# Altium footprint library WWJ_BIGCOINER_ES04.PcbLib: 41 footprints (part 1 of 3)
Each footprint in its own frame and in the unit in brackets; x right, y up, seen from the top. Pads: shape width x height; smd on the part's side, far side on the other; paste and mask are expansions set on the pad; w line width, h text height; cw(c..) or ccw(c..) is an arc to the next point about the centre after c.
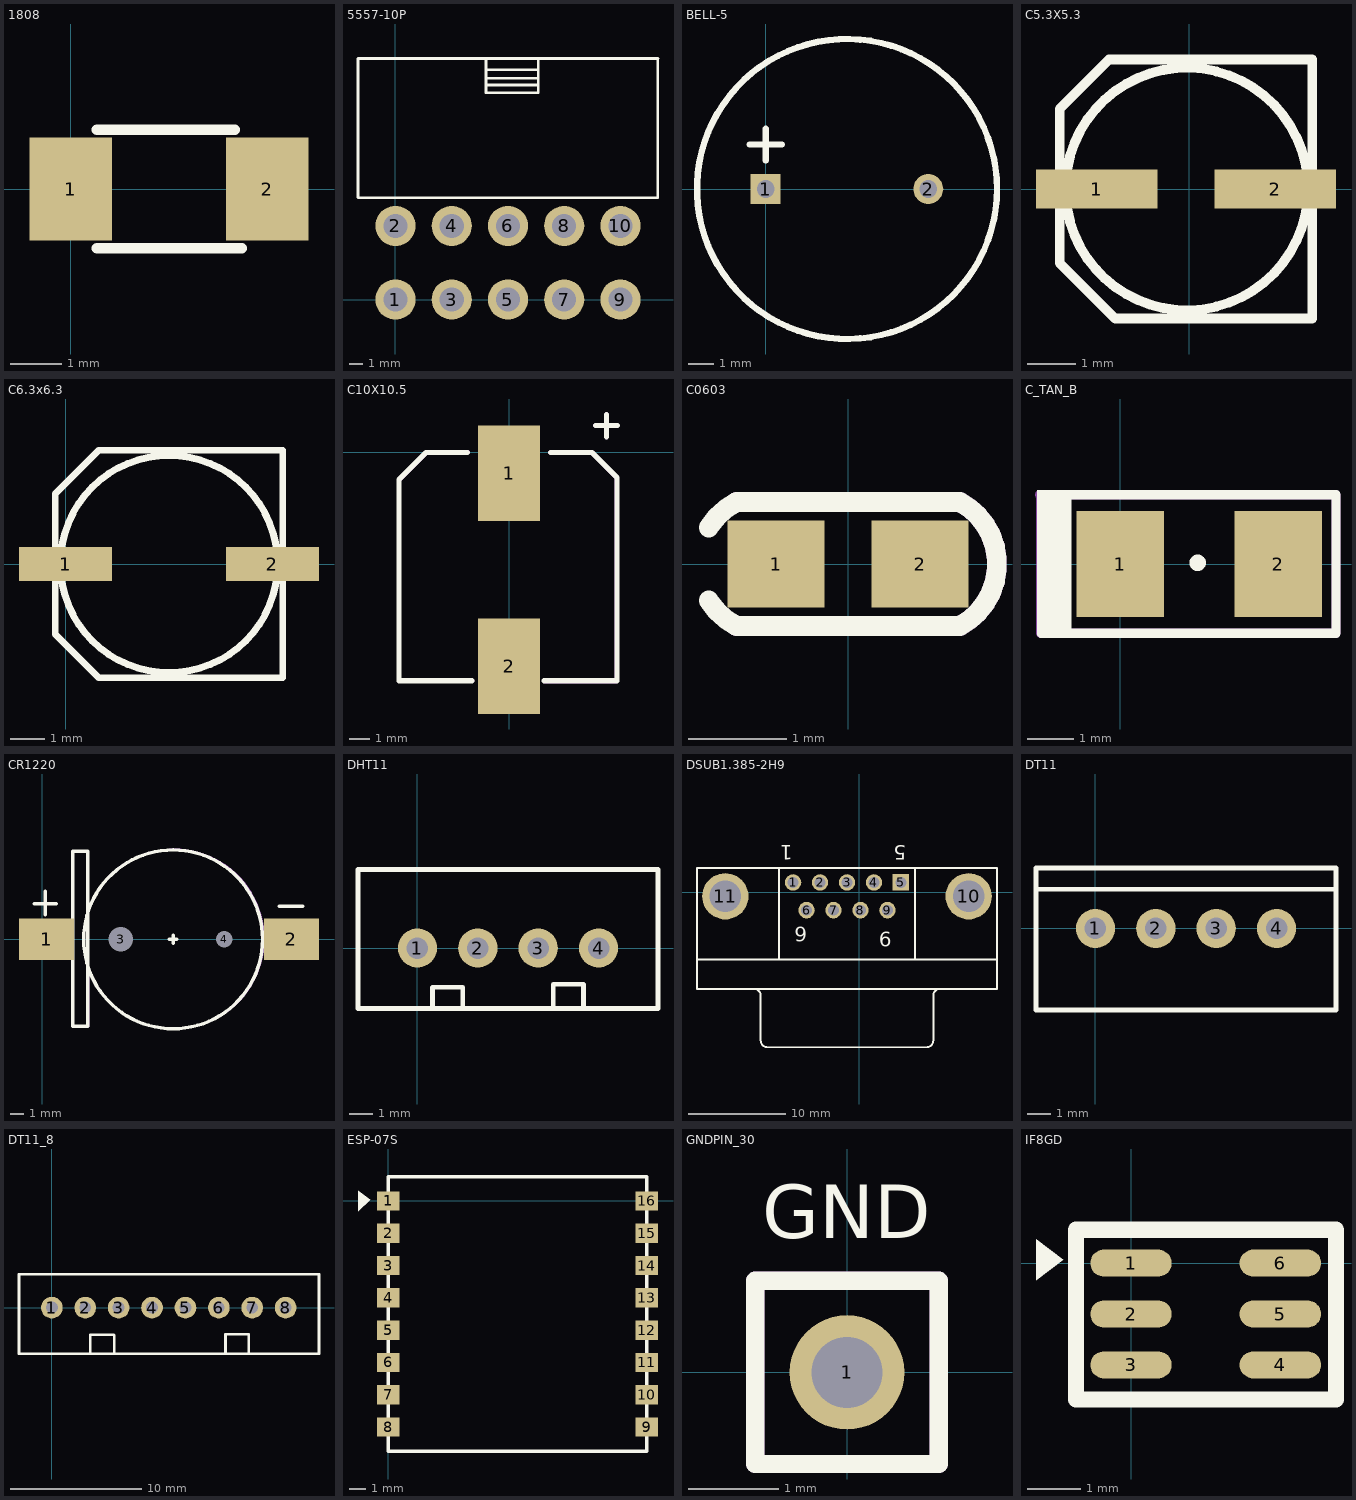
[diagram p0: the footprints below, top view; thin cyan lines are the x and y axes]

## 1808 [mm]
pads (2):
  rect 1.6x2 smd: 1(0,0) 2(3.8,0)
Top Overlay:
  lines w0.203: 0.508,-1.143 3.302,-1.143 ; 0.508,1.143 3.175,1.143

## 5557-10P [mm]
height 1.4
pads (10):
  round 3 hole 1.8: 1(0,0) 2(0,5.5) 3(4.2,0) 4(4.2,5.5) 5(8.4,0) 6(8.4,5.5) 7(12.6,0) 8(12.6,5.5) 9(16.8,0) 10(16.8,5.5)
Top Overlay:
  lines w0.2: -2.8,18 -2.8,7.626 -2.769,7.595 19.6,7.595 19.6,18 ; -2.769,18 19.609,18 ; 6.756,18.009 6.756,15.443 10.643,15.443 10.668,15.469 10.668,18 ; 6.782,17.17 10.643,17.17 ; 6.807,16.027 10.541,16.027 ; 6.883,16.535 10.617,16.535

## BELL-5 [mm]
height 1.4
pads (2):
  rect 1.2x1.2 hole 0.7: 1(0,0)
  round 1.2 hole 0.7: 2(6.5,0)
Top Overlay:
  circle w0.254: c3.25,0 r6
  lines w0.254: -0.635,1.778 0.635,1.778 ; 0,1.143 0,2.413

## C5.3X5.3 [mm]
pads (2):
  rect 2.5x0.8 smd: 1(-1.905,0) 2(1.778,0)
Top Overlay:
  circle w0.2: c-0.048,0 r2.5
  lines w0.2: -2.667,-1.524 -2.667,1.651 -1.651,2.667 2.54,2.667 2.54,-2.667 -1.524,-2.667 -2.667,-1.524

## C6.3x6.3 [mm]
pads (2):
  rect 2.7x1 smd: 1(0,0) 2(6,0)
Top Overlay:
  circle w0.2: c3,0 r3.15
  lines w0.2: -0.3,2.032 -0.3,-2.032 0.968,-3.3 6.3,-3.3 6.3,3.3 0.968,3.3 -0.287,2.045
3D body: height 5.2, standoff 0, extent -0.5,-3.302 6.5,3.298

## C10X10.5 [mm]
pads (2):
  rect 3x4.6 smd: 1(0,-1) 2(0,-10.3)
Top Overlay:
  lines w0.254: -1.8,-11 -5.3,-11 -5.3,-1.3 -4,0 ; 1.7,-11 5.2,-11 5.2,-1.2 4,0 ; 4.166,1.3 5.207,1.3 ; 4.7,0.762 4.7,1.829 ; -4,0 -2,0 -4,0 ; 4,0 2,0 4,0
Mechanical 1:
  lines w0.203: -1.981,0.025 -3.937,0.025 -5.232,-1.27 -5.258,-1.27 -5.309,-1.321 -5.309,-10.998 -1.778,-10.998 ; 1.702,-11.024 5.156,-11.024 5.182,-10.998 5.182,-1.219 ; 4.14,1.295 5.207,1.295 ; 4.699,0.737 4.699,1.854 ; 5.182,-1.219 4.039,-0.076 5.182,-1.219 ; 1.981,0 4.013,0 1.981,0
  text "C10X10.5" at -2.286,-6.274 h1.02

## C0603 [mil] "C0603"
height 55.12
pads (2):
  rect 39x35 smd: 1(-29,0) 2(29,0)
Top Overlay:
  lines w8: -56.1,-14.76 ccw(c-30.91,1.41) -45,-25 45,-25 ccw(c31.67,0) 45,25 -45,25 ccw(c-30.91,-1.41) -56.1,14.76
Mechanical 1:
  lines w8: -45,-25 45,-25 ccw(c31.67,0) 45,25 -45,25
  text "C0603" at -39,-20 h20
  text "1" at -30,-10 h10
  text "2" at 20,-10 h10

## C_TAN_B [mm] "C_TAN_B"
pads (2):
  rect 1.9x2.3 smd: 1(0,0) 2(3.42,0)
Top Overlay:
  circle w0.254: c1.676,0.025 r0.051
  region: -1.803,1.6 -1.803,-1.549 -1.753,-1.6 -1.067,-1.6 -1.067,1.6
  lines w0.203: -1.194,-1.499 4.674,-1.499 4.674,1.499 -1.194,1.499
Mechanical 1:
  region: -1.829,1.524 -1.829,-1.473 -1.219,-1.473 -1.194,-1.448 -1.194,1.524
  lines w0.203: -1.753,1.5 4.623,1.5 ; -1.727,-1.5 4.674,-1.5 4.674,1.499
  text "C_TAN_B" at -0.584,-0.559 h0.76
  text "1" at 0.025,0.483 h0.51
  text "2" at 3.226,0.559 h0.51
Mechanical 16:
  circle w0.254: c3.378,0 r0.051

## CR1220 [mm]
height 1.4
pads (4):
  rect 4x3 smd: 1(0.3,0) 2(18.1,0)
  round 1.2 hole 1.8 unplated: 3(5.7,0)
  round 1 hole 1.2 unplated: 4(13.2,0)
Top Overlay:
  circle w0.254: c9.5,0 r6.5
  lines w0.254: -0.6,2.584 1,2.584 ; 0.2,1.784 0.2,3.484 ; 9.2,0 9.779,0 ; 9.5,-0.3 9.5,0.3 ; 17.221,2.413 18.921,2.413 ; 2.2,-6.325 2.2,6.401 3.3,6.401 3.3,1.9 3.3,-6.325 2.2,-6.325
Mechanical 1:
  circle w0.102: c9.55,0.025 r6.542
  lines w0.127: 2.184,-6.325 2.184,6.426 3.302,6.426 3.302,-2.134 3.353,-2.184 3.353,-6.325 2.184,-6.325

## DHT11 [mil]
height 55.12
pads (4):
  round 65 hole 35.43: 1(0,0) 2(100,0) 3(200,0) 4(300,0)
Top Overlay:
  lines w8: 25,-100 25,-65 75,-65 75,-100 ; 225,-100 225,-60 275,-60 275,-100 ; -98.43,-100 292.2,-100 398.43,-100 398.43,0 398.43,130 -98.43,130 -98.43,0 -98.43,-100

## DSUB1.385-2H9 [mm] "Connector; D Subminiature; 9 Position; Right Angle; Pitch 1.385 mm，公头"
height 12.75
pads (11):
  round 1.69 hole 1.09: 1(-6.81,1.014) 2(-4.04,1.014) 3(-1.27,1.014) 4(1.5,1.014) 6(-5.425,-1.826) 7(-2.655,-1.826) 8(0.115,-1.826) 9(2.885,-1.826)
  rect 1.69x1.69 hole 1.09: 5(4.27,1.014)
  round 4.76 hole 3.26: 10(11.225,-0.406) 11(-13.765,-0.406)
Top Overlay:
  lines w0.2: -16.67,-6.906 14.13,-6.906 ; -10.83,-9.911 cw(c-10.83,-10.606) -10.135,-10.606 -10.135,-15.206 ; -10.13,-15.211 ccw(c-9.435,-15.211) -9.435,-15.906 6.895,-15.906 ccw(c6.895,-15.211) 7.59,-15.211 ; -8.27,-6.906 -8.27,2.494 ; 5.73,-6.906 5.73,2.494 ; 7.595,-15.206 7.595,-10.606 cw(c8.29,-10.606) 8.29,-9.911 ; -16.67,-9.906 -16.67,2.494 14.13,2.494 14.13,-9.906 -16.67,-9.906
  text "1" at -6.858,4.826 h1.5
  text "5" at 4.826,4.826 h1.5
  text "9" at 3.302,-4.064 h1.5
  text "6" at -5.334,-3.556 h1.5

## DT11 [mil]
height 55.12
pads (4):
  round 65 hole 35.43: 1(0,0) 2(100,0) 3(200,0) 4(300,0)
Top Overlay:
  lines w7.87: -96,65 398,65
  lines w8: -98.43,-135 -98.43,0 -98.43,100 298.43,100 398.43,100 398.43,0 398.43,-135 297.2,-135 -98.43,-135

## DT11_8 [mil]
height 55.12
pads (8):
  round 65 hole 35.43: 1(0,0) 2(100,0) 3(200,0) 4(300,0) 5(400,0) 6(500,0) 7(600,0) 8(700,0)
Top Overlay:
  lines w7.87: 115,-138 115,-81 185,-81 187,-83 187,-135 ; 395,-137.8 800,-137.8 800,100 495,100 ; 520,-137 520,-80 590,-80 ; 590,-134 590,-82
  lines w8: -98.43,-137.8 300,-137.8 398.43,-137.8 ; -98.43,-136.22 -98.43,0 -98.43,100 298.43,100 498.43,100

## ESP-07S [mm]
height 1.4
pads (16):
  rect 1.4x1.2 smd: 1(0,0) 2(0,-2) 3(0,-4) 4(0,-6) 5(0,-8) 6(0,-10) 7(0,-12) 8(0,-14) 9(16,-14) 10(16,-12) 11(16,-10) 12(16,-8) 13(16,-6) 14(16,-4) 15(16,-2) 16(16,0)
Top Overlay:
  region: -1.88,0.635 -1.88,-0.635 -1.118,0.076
  lines w0.2: 0,-15.5 16,-15.5 ; 0,-15.494 0,1.448 ; 0,1.5 16.002,1.5 ; 16.002,-15.494 16.002,1.499

## GNDPIN_30 [mil] "GNDPIN_30"
height 55.12
pads (1):
  round 50 hole 31: 1(0,0)
Top Overlay:
  lines w8: -40,-40 40,-40 40,40 -40,40 -40,-40
  text "GND" at -37,51 h40
Bottom Overlay:
  lines w8: -40,-40 40,-40 40,40 -40,40 -40,-40
  text "GND" at -37,51 h40
Mechanical 1:
  lines w8: -40,-40 -40,40 ; -40,-40 40,-40 ; -40,-40 -40,40 ; -40,-40 40,-40 ; -40,40 40,40 ; -40,40 40,40 ; 40,-40 40,40 ; 40,-40 40,40
  text "GNDPIN_0.8" at -35,-35 h10
  text "1" at 5,-5 h28

## IF8GD [mil]
height 55.12
pads (6):
  oval 60x20 smd: 1(0,0) 2(0,-37.5) 3(0,-75) 4(110,-75) 5(110,-37.5) 6(110,0)
Top Overlay:
  region: -70,17.5 -70,-12.5 -50,2.5
  lines w12: -40.5,-100.5 151,-100.5 151,24.5 -40.5,24.5 -40.5,23 -40.5,-100.5